# Altium integrated library led_displays.IntLib: 3 symbols
Pins are listed as number, name and electrical type; pins without a type are passive.

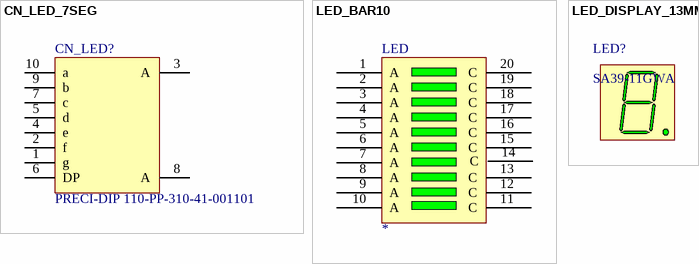
[diagram p0: symbols CN_LED_7SEG to LED_DISPLAY_13MM]

## CN_LED_7SEG
designator CN_LED?, comment PRECI-DIP 110-PP-310-41-001101
PRECI-DIP, height 4.2mm, 110-PP-310-41-001101 (SEMICON)
footprint LED_7SEG_13MM
pins: 1 g "Cathode", 2 f "Cathode", 3 A "Anode", 4 e "Cathode", 5 d "Cathode", 6 DP "Cathode", 7 c "Cathode", 8 A "Anode", 9 b "Cathode", 10 a "Cathode"

## LED_BAR10
designator LED
footprint LED_BAR10
pins: 1 A, 2 A, 3 A, 4 A, 5 A, 6 A, 7 A, 8 A, 9 A, 10 A, 11 C, 12 C, 13 C, 14 C, 15 C, 16 C, 17 C, 18 C, 19 C, 20 C

## LED_DISPLAY_13MM
designator LED?, comment SA39-11GWA  (mechanical)
Kingbright 9.9mm (13mm Body) Single Digit Numeric Display, Common Anode